# EAGLE library part EW-WMBGMR01 (library m-pad-2.1)
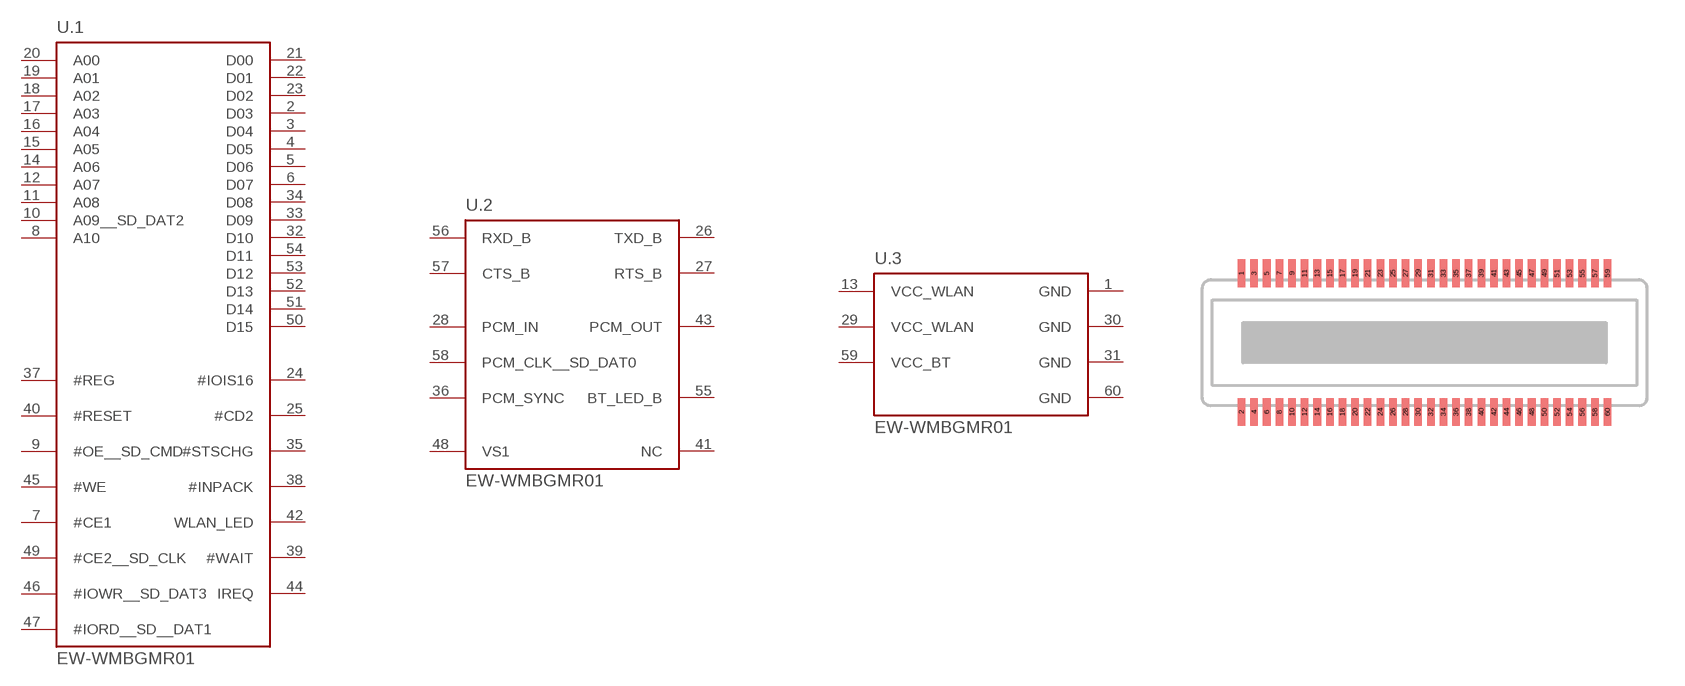
[diagram p164: symbol with the pads of 54722-0607; footprint 54722-0607]

Designator prefix U; gates .1=EW-WMBGMR01-CF .2=EW-WMBGMR01-BT .3=EW-WMBGMR01-PWR

## EW-WMBGMR01  [54722-0607]
1  .3:GND  pwr
2  .1:D03
3  .1:D04
4  .1:D05
5  .1:D06
6  .1:D07
7  .1:#CE1  in
8  .1:A10  in
9  .1:#OE__SD_CMD  in
10  .1:A09__SD_DAT2  in
11  .1:A08  in
12  .1:A07  in
13  .3:VCC_WLAN  pwr
14  .1:A06  in
15  .1:A05  in
16  .1:A04  in
17  .1:A03  in
18  .1:A02  in
19  .1:A01  in
20  .1:A00  in
21  .1:D00
22  .1:D01
23  .1:D02
24  .1:#IOIS16  out
25  .1:#CD2  out
26  .2:TXD_B  out
27  .2:RTS_B  out
28  .2:PCM_IN  in
29  .3:VCC_WLAN  pwr
30  .3:GND  pwr
31  .3:GND  pwr
32  .1:D10
33  .1:D09
34  .1:D08
35  .1:#STSCHG  out
36  .2:PCM_SYNC  out
37  .1:#REG  in
38  .1:#INPACK  out
39  .1:#WAIT  out
40  .1:#RESET  in
41  .2:NC  nc
42  .1:WLAN_LED  out
43  .2:PCM_OUT  out
44  .1:IREQ  out
45  .1:#WE  in
46  .1:#IOWR__SD_DAT3  in
47  .1:#IORD__SD__DAT1  in
48  .2:VS1  pas
49  .1:#CE2__SD_CLK  in
50  .1:D15
51  .1:D14
52  .1:D13
53  .1:D12
54  .1:D11
55  .2:BT_LED_B  out
56  .2:RXD_B  in
57  .2:CTS_B  in
58  .2:PCM_CLK__SD_DAT0  in
59  .3:VCC_BT  pwr
60  .3:GND  pwr

## Footprint 54722-0607 (pad centres in mm)
Molex 54722-0607 Bord to Board connector 60pin.
smd 0.3 x 1.1: 1 -7.25,2.75; 2 -7.25,-2.75; 3 -6.75,2.75; 4 -6.75,-2.75; 5 -6.25,2.75; 6 -6.25,-2.75; 7 -5.75,2.75; 8 -5.75,-2.75; 9 -5.25,2.75; 10 -5.25,-2.75; 11 -4.75,2.75; 12 -4.75,-2.75; 13 -4.25,2.75; 14 -4.25,-2.75; 15 -3.75,2.75; 16 -3.75,-2.75; 17 -3.25,2.75; 18 -3.25,-2.75; 19 -2.75,2.75; 20 -2.75,-2.75; 21 -2.25,2.75; 22 -2.25,-2.75; 23 -1.75,2.75; 24 -1.75,-2.75; 25 -1.25,2.75; 26 -1.25,-2.75; 27 -0.75,2.75; 28 -0.75,-2.75; 29 -0.25,2.75; 30 -0.25,-2.75; 31 0.25,2.75; 32 0.25,-2.75; 33 0.75,2.75; 34 0.75,-2.75; 35 1.25,2.75; 36 1.25,-2.75; 37 1.75,2.75; 38 1.75,-2.75; 39 2.25,2.75; 40 2.25,-2.75; 41 2.75,2.75; 42 2.75,-2.75; 43 3.25,2.75; 44 3.25,-2.75; 45 3.75,2.75; 46 3.75,-2.75; 47 4.25,2.75; 48 4.25,-2.75; 49 4.75,2.75; 50 4.75,-2.75; 51 5.25,2.75; 52 5.25,-2.75; 53 5.75,2.75; 54 5.75,-2.75; 55 6.25,2.75; 56 6.25,-2.75; 57 6.75,2.75; 58 6.75,-2.75; 59 7.25,2.75; 60 7.25,-2.75